# EAGLE library part 1072 (library display-lcd-lxd)
3 Numerical Digit, .50" (12.70) Direct Drive Display Additional Descriptors: &deg F, &deg C, +, -
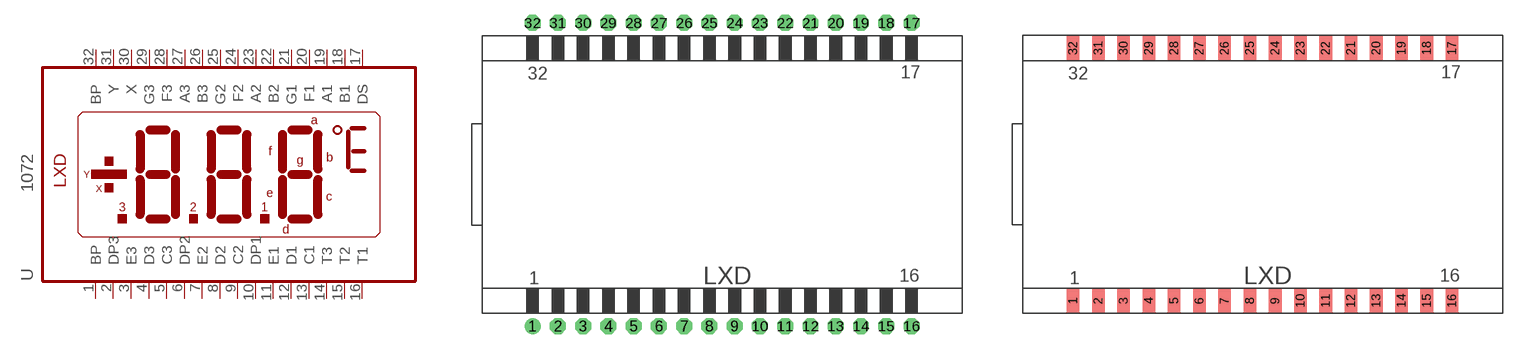
[diagram p44: symbol with the pads of 1072-D; footprints 1072-D, 1072-E]

Designator prefix -

## 1072DIP  [1072-D]
1  BP  pas
2  DP3  pas
3  E3  pas
4  D3  pas
5  C3  pas
6  DP2  pas
7  E2  pas
8  D2  pas
9  C2  pas
10  DP1  pas
11  E1  pas
12  D1  pas
13  C1  pas
14  T3  pas
15  T2  pas
16  T1  pas
17  DS  pas
18  B1  pas
19  A1  pas
20  F1  pas
21  G1  pas
22  B2  pas
23  A2  pas
24  F2  pas
25  G2  pas
26  B3  pas
27  A3  pas
28  F3  pas
29  G3  pas
30  X  pas
31  Y  pas
32  BP  pas

## 1072SMD  [1072-E]
Pads as for 1072-D

## Footprint 1072-D (pad centres in mm)
Glass Size: 1.80" x 1.10" &nbsp &nbsp &nbsp &nbsp &nbsp &nbsp &nbsp &nbsp &nbsp (45.72 x 27.94)
drill 0.813 pad 1.6 round: 1 -19.05,-15.24
drill 0.813 pad 1.6 octagon: 2 -16.51,-15.24; 3 -13.97,-15.24; 4 -11.43,-15.24; 5 -8.89,-15.24; 6 -6.35,-15.24; 7 -3.81,-15.24; 8 -1.27,-15.24; 9 1.27,-15.24; 10 3.81,-15.24; 11 6.35,-15.24; 12 8.89,-15.24; 13 11.43,-15.24; 14 13.97,-15.24; 15 16.51,-15.24; 16 19.05,-15.24; 17 19.05,15.24; 18 16.51,15.24; 19 13.97,15.24; 20 11.43,15.24; 21 8.89,15.24; 22 6.35,15.24; 23 3.81,15.24; 24 1.27,15.24; 25 -1.27,15.24; 26 -3.81,15.24; 27 -6.35,15.24; 28 -8.89,15.24; 29 -11.43,15.24; 30 -13.97,15.24; 31 -16.51,15.24; 32 -19.05,15.24

## Footprint 1072-E (pad centres in mm)
Glass Size: 1.80" x 1.10" &nbsp &nbsp &nbsp &nbsp &nbsp &nbsp &nbsp &nbsp &nbsp (45.72 x 27.94)
smd 1.27 x 2.54: 1 -19.05,-12.7; 2 -16.51,-12.7; 3 -13.97,-12.7; 4 -11.43,-12.7; 5 -8.89,-12.7; 6 -6.35,-12.7; 7 -3.81,-12.7; 8 -1.27,-12.7; 9 1.27,-12.7; 10 3.81,-12.7; 11 6.35,-12.7; 12 8.89,-12.7; 13 11.43,-12.7; 14 13.97,-12.7; 15 16.51,-12.7; 16 19.05,-12.7; 17 19.05,12.7; 18 16.51,12.7; 19 13.97,12.7; 20 11.43,12.7; 21 8.89,12.7; 22 6.35,12.7; 23 3.81,12.7; 24 1.27,12.7; 25 -1.27,12.7; 26 -3.81,12.7; 27 -6.35,12.7; 28 -8.89,12.7; 29 -11.43,12.7; 30 -13.97,12.7; 31 -16.51,12.7; 32 -19.05,12.7